# EAGLE library part FT230X (library alex_mo1)
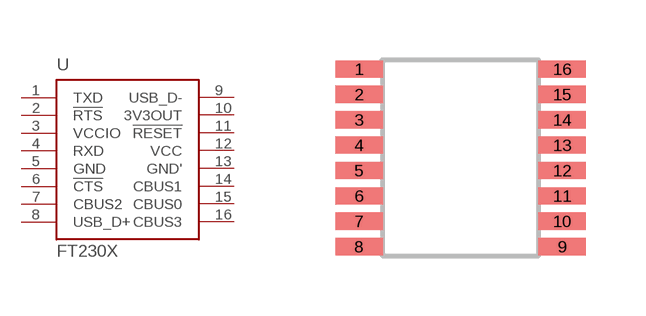
[diagram p0: symbol with the pads of SSOP-16; footprint SSOP-16]

Designator prefix -

## FT230XSMD  [SSOP-16]
1  TXD
2  !RTS
3  VCCIO
4  RXD
5  GND
6  !CTS
7  CBUS2
8  USB_D+
9  USB_D-
10  3V3OUT
11  !RESET
12  VCC
13  GND'
14  CBUS1
15  CBUS0
16  CBUS3

## Footprint SSOP-16 (pad centres in mm)
smd 1.194 x 0.432: 1 -2.54,2.235; 2 -2.54,1.6; 3 -2.54,0.965; 4 -2.54,0.33; 5 -2.54,-0.305; 6 -2.54,-0.94; 7 -2.54,-1.575; 8 -2.54,-2.21; 9 2.54,-2.21; 10 2.54,-1.575; 11 2.54,-0.94; 12 2.54,-0.305; 13 2.54,0.33; 14 2.54,0.965; 15 2.54,1.6; 16 2.54,2.235